# Altium footprint library clap.PcbLib: 14 footprints
Each footprint in its own frame and in the unit in brackets; x right, y up, seen from the top. Pads: shape width x height; smd on the part's side, far side on the other; paste and mask are expansions set on the pad; w line width, h text height; cw(c..) or ccw(c..) is an arc to the next point about the centre after c.
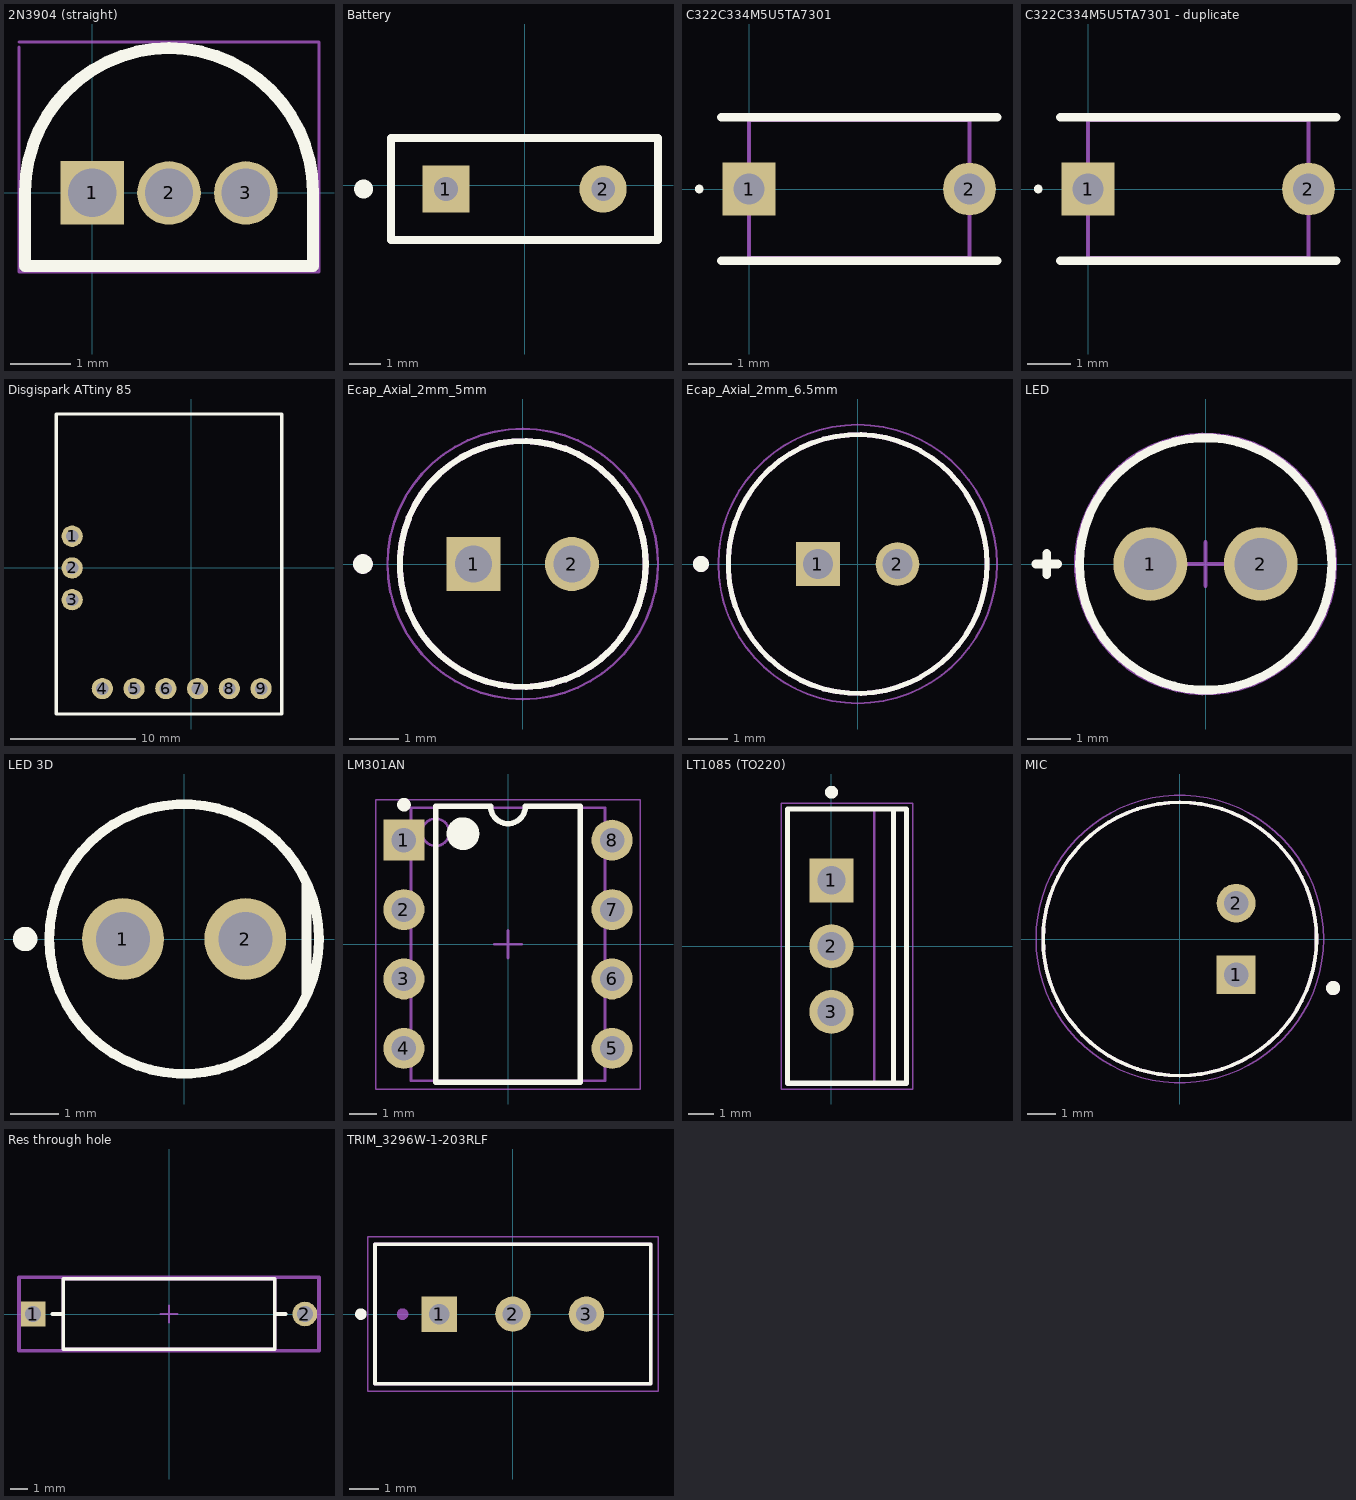
[diagram p0: the footprints below, top view; thin cyan lines are the x and y axes]

## 2N3904 (straight) [mm] "TO, 3-Leads, Body Dia 4.79mm, Pitch 1.27mm"
height 5.33
pads (3):
  rect 1.05x1.05 hole 0.8 mask+0.05: 1(0,0)
  round 1.05 hole 0.8 mask+0.05: 2(1.27,0) 3(2.54,0)
Top Overlay:
  lines w0.2: -1.11,-1.21 -1.11,0.015 cw(c1.27,0.015) 3.65,0.015 3.65,-1.21 -1.11,-1.21
Top 3D Body:
  lines w0.1: -1.11,-1.21 -1.11,0.015 cw(c1.27,0.015) 3.65,0.015 3.65,-1.21 -1.11,-1.21
Top Courtyard:
  lines w0.05: -1.21,2.413 -1.21,-1.31 3.75,-1.31 3.75,2.495 -1.21,2.495
3D body: height 5.33, standoff 0, extent -1.111,-1.211 3.651,2.396

## Battery [mil]
pads (2):
  rect 60x60 hole 30: 1(-100,-5)
  round 60 hole 30: 2(100,-5)
Top Overlay:
  circle w10: c-205,-5 r7.07
  rectangle: -210,-10 -200,0
  lines w10: -170,-70 -170,60 170,60 170,-70 -170,-70

## C322C334M5U5TA7301 [mm] "120nF through hole capacitor"
pads (2):
  rect 1.217x1.217 hole 0.71: 1(0,0)
  round 1.217 hole 0.71: 2(5.08,0)
Top Overlay:
  lines w0.1: -1.2,0 cw(c-1.15,0) -1.1,0 cw(c-1.15,0) -1.2,0
  lines w0.2: -0.635,-1.651 5.715,-1.651 ; -0.635,1.651 5.715,1.651
Top Courtyard:
  lines w0.1: 0,-1.59 0,1.59 5.08,1.59 5.08,-1.59 0,-1.59
3D body "C322C334M5U5TA7301.stp": height 6.98, standoff -16.12, extent -0.253,-1.595 5.333,1.59

## C322C334M5U5TA7301 - duplicate [mm] "120nF through hole capacitor"
pads (2):
  rect 1.217x1.217 hole 0.71: 1(0,0)
  round 1.217 hole 0.71: 2(5.08,0)
Top Overlay:
  lines w0.1: -1.2,0 cw(c-1.15,0) -1.1,0 cw(c-1.15,0) -1.2,0
  lines w0.2: -0.635,-1.651 5.715,-1.651 ; -0.635,1.651 5.715,1.651
Top Courtyard:
  lines w0.1: 0,-1.59 0,1.59 5.08,1.59 5.08,-1.59 0,-1.59
3D body "C322C334M5U5TA7301.stp": height 6.98, standoff -16.12, extent -0.253,-1.595 5.333,1.59

## Disgispark ATtiny 85 [mm]
pads (9):
  round 1.7 hole 1: 1(-9.525,2.54) 2(-9.525,0) 3(-9.525,-2.54) 4(-7.112,-9.652) 5(-4.572,-9.652) 6(-2.032,-9.652) 7(0.508,-9.652) 8(3.048,-9.652) 9(5.588,-9.652)
Top Overlay:
  lines w0.254: 7.207,-11.684 -10.795,-11.684 -10.795,12.319 7.207,12.319 ; 7.239,-11.684 7.239,12.319

## Ecap_Axial_2mm_5mm [mm]
pads (2):
  rect 1.1x1.1 hole 0.75: 1(-1,0)
  round 1.1 hole 0.75: 2(1,0)
Top Overlay:
  circle w0.127: c0,0 r2.5
  circle w0.2: c-3.25,0 r0.1
Top 3D Body:
  circle w0.127: c0,0 r2.5
  circle w0.2: c-3.25,0 r0.1
Top Courtyard:
  circle w0.05: c0,0 r2.75
3D body "step_temp.STEP": height 11, standoff -17, extent -2.5,-2.498 2.5,2.498

## Ecap_Axial_2mm_6.5mm [mm]
pads (2):
  rect 1.1x1.1 hole 0.75: 1(-1,0)
  round 1.1 hole 0.75: 2(1,0)
Top Overlay:
  circle w0.127: c0,0 r3.25
  circle w0.2: c-3.937,0 r0.1
Top 3D Body:
  circle w0.2: c-3.937,0 r0.1
  circle w0.127: c0,0 r3.25
Top Courtyard:
  circle w0.05: c0,0 r3.5
3D body "step_temp.STEP": height 11, standoff -17, extent -2.5,-2.498 2.5,2.498

## LED [mm] "THD, 2-Leads, Dia 5.8mm, Pitch 2.54mm"
pads (2):
  round 1.7 hole 1.2: 1(-1.27,0) 2(1.27,0)
Top Overlay:
  circle w0.2: c0,0 r2.9
  lines w0.2: -3.899,0 -3.4,0 ; -3.649,-0.25 -3.649,0.25
Top 3D Body:
  circle w0.1: c0,0 r2.9
Top Courtyard:
  circle w0.05: c0,0 r3
  lines w0.1: -0.5,0 0.5,0 ; 0,-0.5 0,0.5

## LED 3D [mm]
pads (2):
  round 1.7 hole 1.12: 1(-1.27,0) 2(1.27,0)
Top Overlay:
  circle w0.254: c-3.302,0 r0.127
  lines w0.2: 2.54,-1.143 2.54,1.143 ; -2.8,0 ccw(c0,0) 2.8,0 ccw(c0,0) -2.8,0
3D body "TSAL6200.stp": height 10.15, standoff -24.15, extent -2.9,-2.897 2.5,2.897

## LM301AN [mm] "DIP, 8-Leads, Body 10x7.1mm, Pitch 2.54mm"
height 5.33
pads (8):
  rect 1.5x1.5 hole 0.9: 1(-3.81,3.81)
  round 1.5 hole 0.9: 2(-3.81,1.27) 3(-3.81,-1.27) 4(-3.81,-3.81) 5(3.81,-3.81) 6(3.81,-1.27) 7(3.81,1.27) 8(3.81,3.81)
Top Overlay:
  circle w0.25: c-3.81,5.11 r0.125
  circle w0.6: c-1.65,4.05 r0.3
  lines w0.2: -2.65,-5.05 -2.65,5.05 -0.635,5.05 ccw(c0,5.05) 0.635,5.05 2.65,5.05 2.65,-5.05 -2.65,-5.05
Top 3D Body:
  circle w0.1: c-2.65,4.1 r0.5
  lines w0.1: -3.55,-5 -3.55,5 3.55,5 3.55,-5 -3.55,-5
Top Courtyard:
  lines w0.05: -4.85,-5.3 -4.85,5.3 4.85,5.3 4.85,-5.3 -4.85,-5.3
  lines w0.1: -0.5,0 0.5,0 ; 0,-0.5 0,0.5
3D body: height 2.72, standoff 0, extent -3.945,3.31 -3.675,4.31
3D body: height 2.99, standoff 2.72, extent -3.945,3.31 -3.55,4.31
3D body: height 0, standoff -1.6, extent -3.945,3.45 -3.675,4.17
3D body: height 2.72, standoff 0, extent -3.945,0.77 -3.675,1.77
3D body: height 2.99, standoff 2.72, extent -3.945,0.77 -3.55,1.77
3D body: height 0, standoff -1.6, extent -3.945,0.91 -3.675,1.63
3D body: height 2.72, standoff 0, extent -3.945,-1.77 -3.675,-0.77
3D body: height 2.99, standoff 2.72, extent -3.945,-1.77 -3.55,-0.77
3D body: height 0, standoff -1.6, extent -3.945,-1.63 -3.675,-0.91
3D body: height 2.72, standoff 0, extent -3.945,-4.31 -3.675,-3.31
3D body: height 2.99, standoff 2.72, extent -3.945,-4.31 -3.55,-3.31
3D body: height 0, standoff -1.6, extent -3.945,-4.17 -3.675,-3.45
3D body: height 2.72, standoff 0, extent 3.675,-4.31 3.945,-3.31
3D body: height 2.99, standoff 2.72, extent 3.55,-4.31 3.945,-3.31
3D body: height 0, standoff -1.6, extent 3.675,-4.17 3.945,-3.45
3D body: height 2.72, standoff 0, extent 3.675,-1.77 3.945,-0.77
3D body: height 2.99, standoff 2.72, extent 3.55,-1.77 3.945,-0.77
3D body: height 0, standoff -1.6, extent 3.675,-1.63 3.945,-0.91
3D body: height 2.72, standoff 0, extent 3.675,0.77 3.945,1.77
3D body: height 2.99, standoff 2.72, extent 3.55,0.77 3.945,1.77
3D body: height 0, standoff -1.6, extent 3.675,0.91 3.945,1.63
3D body: height 2.72, standoff 0, extent 3.675,3.31 3.945,4.31
3D body: height 2.99, standoff 2.72, extent 3.55,3.31 3.945,4.31
3D body: height 0, standoff -1.6, extent 3.675,3.45 3.945,4.17
3D body: height 5.33, standoff 0.38, extent -3.55,-5 3.55,5

## LT1085 (TO220) [mm] "T, 3-Leads, Body 10.55x4.6mm, Pitch 2.54mm"
height 22.15
pads (3):
  rect 1.7x1.7 hole 1.1: 1(0,2.54)
  round 1.7 hole 1.1: 2(0,0) 3(0,-2.54)
Top Overlay:
  circle w0.25: c0,5.95 r0.125
  lines w0.2: 2.4,-5.3 2.4,5.3 ; -1.7,-5.3 2.9,-5.3 2.9,5.3 -1.7,5.3 -1.7,-5.3
Top 3D Body:
  lines w0.1: 1.65,-5.275 1.65,5.275 ; -1.7,-5.275 -1.7,5.275 2.9,5.275 2.9,-5.275 -1.7,-5.275
Top Courtyard:
  lines w0.05: -1.95,-5.525 -1.95,5.525 3.15,5.525 3.15,-5.525 -1.95,-5.525
  lines w0.1: -0.5,0 0.5,0 ; 0,-0.5 0,0.5
3D body: height 5.53, standoff 0, extent -0.23,1.905 0.23,3.175
3D body: height 0, standoff -1.6, extent -0.23,2.12 0.23,2.96
3D body: height 5.53, standoff 0, extent -0.23,-0.635 0.23,0.635
3D body: height 0, standoff -1.6, extent -0.23,-0.42 0.23,0.42
3D body: height 5.53, standoff 0, extent -0.23,-3.175 0.23,-1.905
3D body: height 0, standoff -1.6, extent -0.23,-2.96 0.23,-2.12
3D body: height 15.8, standoff 5.53, extent -1.7,-5.275 2.9,5.275
3D body: height 17.33, standoff 15.8, extent 1.65,-5.1 2.9,5.1
3D body: height 17.37, standoff 17.33, extent 1.65,0.376 2.9,5.1
3D body: height 17.37, standoff 17.33, extent 1.65,-5.1 2.9,-0.376
3D body: height 21.18, standoff 21.14, extent 1.65,0.376 2.9,5.1
3D body: height 21.18, standoff 21.14, extent 1.65,-5.1 2.9,-0.376
3D body: height 17.48, standoff 17.36, extent 1.65,0.737 2.9,5.1
3D body: height 17.48, standoff 17.36, extent 1.65,-5.1 2.9,-0.737
3D body: height 21.14, standoff 21.03, extent 1.65,0.737 2.9,5.1
3D body: height 21.14, standoff 21.03, extent 1.65,-5.1 2.9,-0.737
3D body: height 17.65, standoff 17.47, extent 1.65,1.069 2.9,5.1
3D body: height 17.65, standoff 17.47, extent 1.65,-5.1 2.9,-1.069
3D body: height 21.03, standoff 20.85, extent 1.65,1.069 2.9,5.1
3D body: height 21.03, standoff 20.85, extent 1.65,-5.1 2.9,-1.069
3D body: height 17.89, standoff 17.65, extent 1.65,1.361 2.9,5.1
3D body: height 17.89, standoff 17.65, extent 1.65,-5.1 2.9,-1.361
3D body: height 20.86, standoff 20.61, extent 1.65,1.361 2.9,5.1
3D body: height 20.86, standoff 20.61, extent 1.65,-5.1 2.9,-1.361
3D body: height 18.19, standoff 17.89, extent 1.65,1.601 2.9,5.1
3D body: height 18.19, standoff 17.89, extent 1.65,-5.1 2.9,-1.601
3D body: height 20.62, standoff 20.32, extent 1.65,1.601 2.9,5.1
3D body: height 20.62, standoff 20.32, extent 1.65,-5.1 2.9,-1.601
3D body: height 18.52, standoff 18.18, extent 1.65,1.778 2.9,5.1
3D body: height 18.52, standoff 18.18, extent 1.65,-5.1 2.9,-1.778
3D body: height 20.32, standoff 19.99, extent 1.65,1.778 2.9,5.1
3D body: height 20.32, standoff 19.99, extent 1.65,-5.1 2.9,-1.778
3D body: height 18.88, standoff 18.51, extent 1.65,1.888 2.9,5.1
3D body: height 18.88, standoff 18.51, extent 1.65,-5.1 2.9,-1.888
3D body: height 19.99, standoff 19.63, extent 1.65,1.888 2.9,5.1
3D body: height 19.99, standoff 19.63, extent 1.65,-5.1 2.9,-1.888
3D body: height 19.25, standoff 18.87, extent 1.65,1.925 2.9,5.1
3D body: height 19.25, standoff 18.87, extent 1.65,-5.1 2.9,-1.925
3D body: height 19.63, standoff 19.25, extent 1.65,1.925 2.9,5.1
3D body: height 19.63, standoff 19.25, extent 1.65,-5.1 2.9,-1.925
3D body: height 22.15, standoff 21.18, extent 1.65,-5.1 2.9,5.1

## MIC [mm]
pads (2):
  rect 1.378x1.378 hole 0.87: 1(2,-1.27)
  round 1.378 hole 0.87: 2(2,1.27)
Top Overlay:
  circle w0.127: c0,0 r4.85
  circle w0.3: c5.443,-1.741 r0.1
Top 3D Body:
  circle w0.127: c0,0 r4.85
  circle w0.3: c5.443,-1.741 r0.1
Top Courtyard:
  circle w0.05: c0,0 r5.1

## Res through hole [mm]
pads (2):
  rect 1.4x1.4 hole 0.9 paste-1000 mask+0: 1(-7.73,0)
  round 1.4 hole 0.9 paste-1000 mask+0: 2(7.73,0)
Top Overlay:
  lines w0.2: -6.63,0 -6,0 ; 6,0 6.63,0 ; -6,-2 6,-2 6,2 -6,2 -6,-2
Top Assembly:
  lines w0.2: -8.53,-2.1 8.53,-2.1 8.53,2.1 -8.53,2.1 -8.53,-2.1
  text ".Designator" at 0,0.188 h1
Top 3D Body:
  lines w0.2: -6,-2 6,-2 6,2 -6,2 -6,-2
Top Courtyard:
  lines w0.2: -8.53,-2.1 8.53,-2.1 8.53,2.1 -8.53,2.1 -8.53,-2.1
Top Component Center:
  lines w0.1: -0.5,0 0.5,0 ; 0,-0.5 0,0.5
3D body "Res_Vishay_VR37000001204JA100_eec.STEP": height 0.25, standoff 0, extent -8.53,-2.1 8.53,2.1

## TRIM_3296W-1-203RLF [mm]
pads (3):
  rect 1.218x1.218 hole 0.71: 1(-2.54,0)
  round 1.218 hole 0.71: 2(0,0) 3(2.54,0)
Top Overlay:
  circle w0.2: c-5.25,0 r0.1
  lines w0.127: -4.765,-2.41 -4.765,2.42 4.765,2.42 4.765,-2.41 -4.765,-2.41
Top 3D Body:
  circle w0.2: c-3.81,0 r0.1
  lines w0.127: -4.765,-2.41 4.765,-2.41 4.765,2.42 -4.765,2.42 -4.765,-2.41
Top Courtyard:
  lines w0.05: -5.015,-2.66 5.015,-2.66 5.015,2.67 -5.015,2.67 -5.015,-2.66
3D body "step_temp.STEP": height 11.55, standoff -7.72, extent -4.765,-2.42 4.765,2.41